# Altium footprint library IND_ATCA-08-750M-V.PcbLib: 1 footprints
Each footprint in its own frame and in the unit in brackets; x right, y up, seen from the top. Pads: shape width x height; smd on the part's side, far side on the other; paste and mask are expansions set on the pad; w line width, h text height; cw(c..) or ccw(c..) is an arc to the next point about the centre after c.
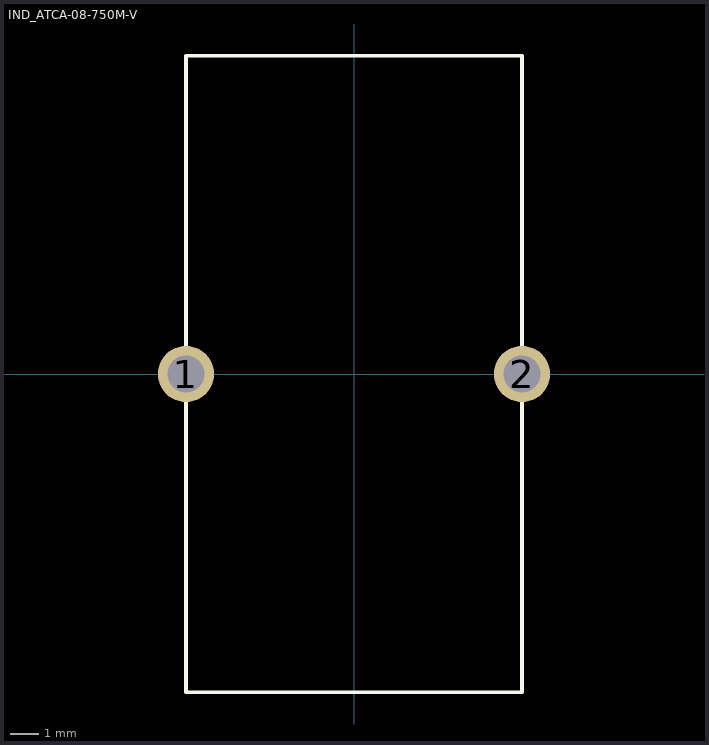
[diagram p0: the footprint, top view; thin cyan lines are the x and y axes]

## IND_ATCA-08-750M-V [mm]
height 18
pads (2):
  round 2 hole 1.3: 1(-5.969,0) 2(5.969,0)
Top Overlay:
  lines w0.127: -5.969,-0.799 -5.969,-11.303 5.969,-11.303 5.969,-1.018 ; -5.969,1.018 -5.969,11.303 5.969,11.303 5.969,1.018